# EAGLE library part CONN_2X3_SMD (library Hippo-PS)
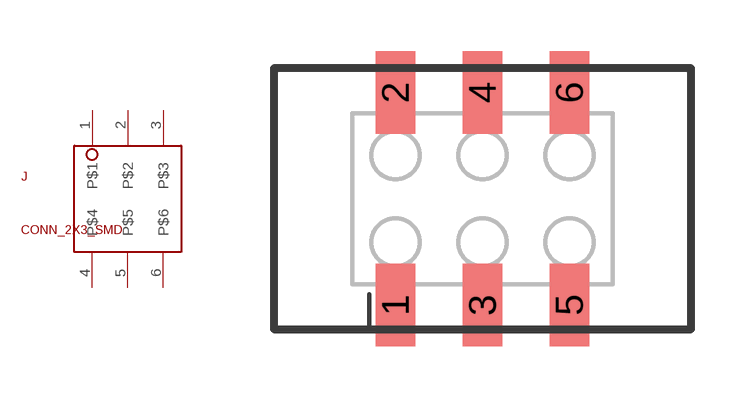
[diagram p2: symbol with the pads of 2X3_SMD_CONNECTOR; footprint 2X3_SMD_CONNECTOR]

Designator prefix J

## CONN_2X3_SMD  [2X3_SMD_CONNECTOR]
1  P$1
2  P$2
3  P$3
4  P$4
5  P$5
6  P$6

## Footprint 2X3_SMD_CONNECTOR (pad centres in mm)
Surface Mount - 2x3 Specifications: Pin count:6 Pin pitch:2.54mm Example device(s): CONN_03x2
smd 1.147 x 2.408: 1 -2.54,-3.104; 2 -2.54,3.104; 3 0,-3.104; 4 0,3.104; 5 2.54,-3.104; 6 2.54,3.104